# Altium schematic symbol library ADM408.Schlib: 1 symbol
Pins are listed as number, name and electrical type; pins without a type are passive.

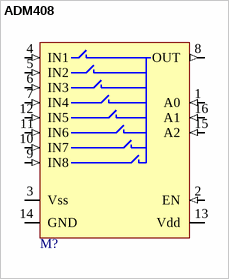
[diagram p0: symbol ADM408]

## ADM408
designator M?  (value not drawn)
8-ch analog multiplexor
footprint SO-16n
pins: 1 A0 (in), 2 EN (in), 3 Vss (power), 4 IN1 (in), 5 IN2 (in), 6 IN3 (in), 7 IN4 (in), 8 OUT (out), 9 IN8 (in), 10 IN7 (in), 11 IN6 (in), 12 IN5 (in), 13 Vdd (power), 14 GND (power), 15 A2 (in), 16 A1 (in)